# Altium footprint library iXBT.PcbLib: 2 footprints
Each footprint in its own frame and in the unit in brackets; x right, y up, seen from the top. Pads: shape width x height; smd on the part's side, far side on the other; paste and mask are expansions set on the pad; w line width, h text height; cw(c..) or ccw(c..) is an arc to the next point about the centre after c.
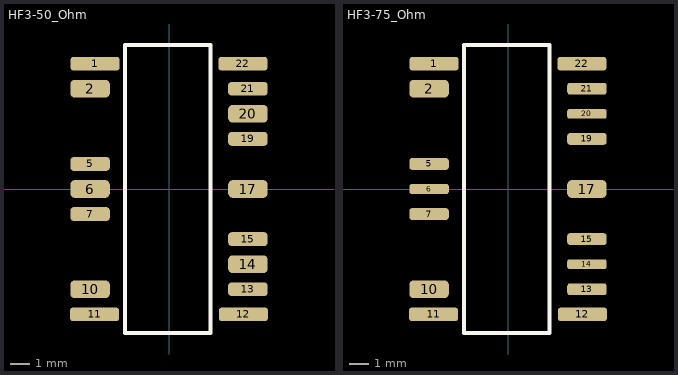
[diagram p0: the footprints below, top view; thin cyan lines are the x and y axes]

## HF3-50_Ohm [mm]
pads (16):
  rrect50% 2.5x0.7 smd: 1(-3.746,6.35) 11(-3.771,-6.35) 12(3.771,-6.35) 22(3.747,6.35)
  rrect50% 2x0.9 smd: 2(-4,5.08) 6(-4,0) 10(-4,-5.08) 14(4,-3.81) 17(4,0) 20(4,3.81)
  rrect50% 2x0.7 smd: 5(-4,1.27) 7(-4,-1.27) 13(4,-5.08) 15(4,-2.54) 19(4,2.54) 21(4,5.08)
Top Overlay:
  lines w0.2: -2.222,-7.3 -2.222,7.3 2.096,7.3 2.096,-7.3 -2.222,-7.3
3D body: height 10, standoff 0, extent -3.555,-7.365 3.555,7.365

## HF3-75_Ohm [mm]
pads (16):
  rrect50% 2.5x0.7 smd: 1(-3.746,6.35) 11(-3.771,-6.35) 12(3.771,-6.35) 22(3.747,6.35)
  rrect50% 2x0.9 smd: 2(-4,5.08) 10(-4,-5.08) 17(4,0)
  rrect50% 2x0.6 smd: 5(-4,1.27) 7(-4,-1.27) 13(4,-5.08) 15(4,-2.54) 19(4,2.54) 21(4,5.08)
  rrect50% 2x0.5 smd: 6(-4,0) 14(4,-3.81) 20(4,3.81)
Top Overlay:
  lines w0.2: -2.222,-7.3 -2.222,7.3 2.096,7.3 2.096,-7.3 -2.222,-7.3
3D body: height 10, standoff 0, extent -3.555,-7.365 3.555,7.365